# Altium schematic symbol library PSU_Holes_2mm.SchLib: 1 symbol
Pins are listed as number, name and electrical type; pins without a type are passive.

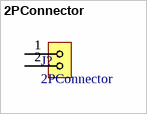
[diagram p0: symbol 2PConnector]

## 2PConnector
designator J?
footprint PSU_Holes_2mm
pins: 1, 2